# EAGLE library part SI1133 (library light-sensors)
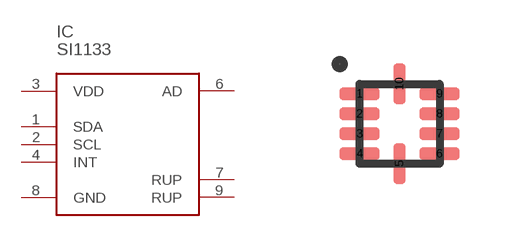
[diagram p0: symbol with the pads of DFN10-2X2; footprint DFN10-2X2]

Designator prefix IC

## SI1133  [DFN10-2X2]
1  SDA
2  SCL
3  VDD
4  INT
6  AD
7  RUP
8  GND
9  RUP

## Footprint DFN10-2X2 (pad centres in mm)
smd 1 x 0.3: 1 -1,0.75; 2 -1,0.25; 3 -1,-0.25; 4 -1,-0.75; 6 1,-0.75; 7 1,-0.25; 8 1,0.25; 9 1,0.75
smd 0.3 x 1: 5 0,-1; 10 0,1